# Altium footprint library PCB Library.PcbLib: 41 footprints (part 3 of 3)
Each footprint in its own frame and in the unit in brackets; x right, y up, seen from the top. Pads: shape width x height; smd on the part's side, far side on the other; paste and mask are expansions set on the pad; w line width, h text height; cw(c..) or ccw(c..) is an arc to the next point about the centre after c.
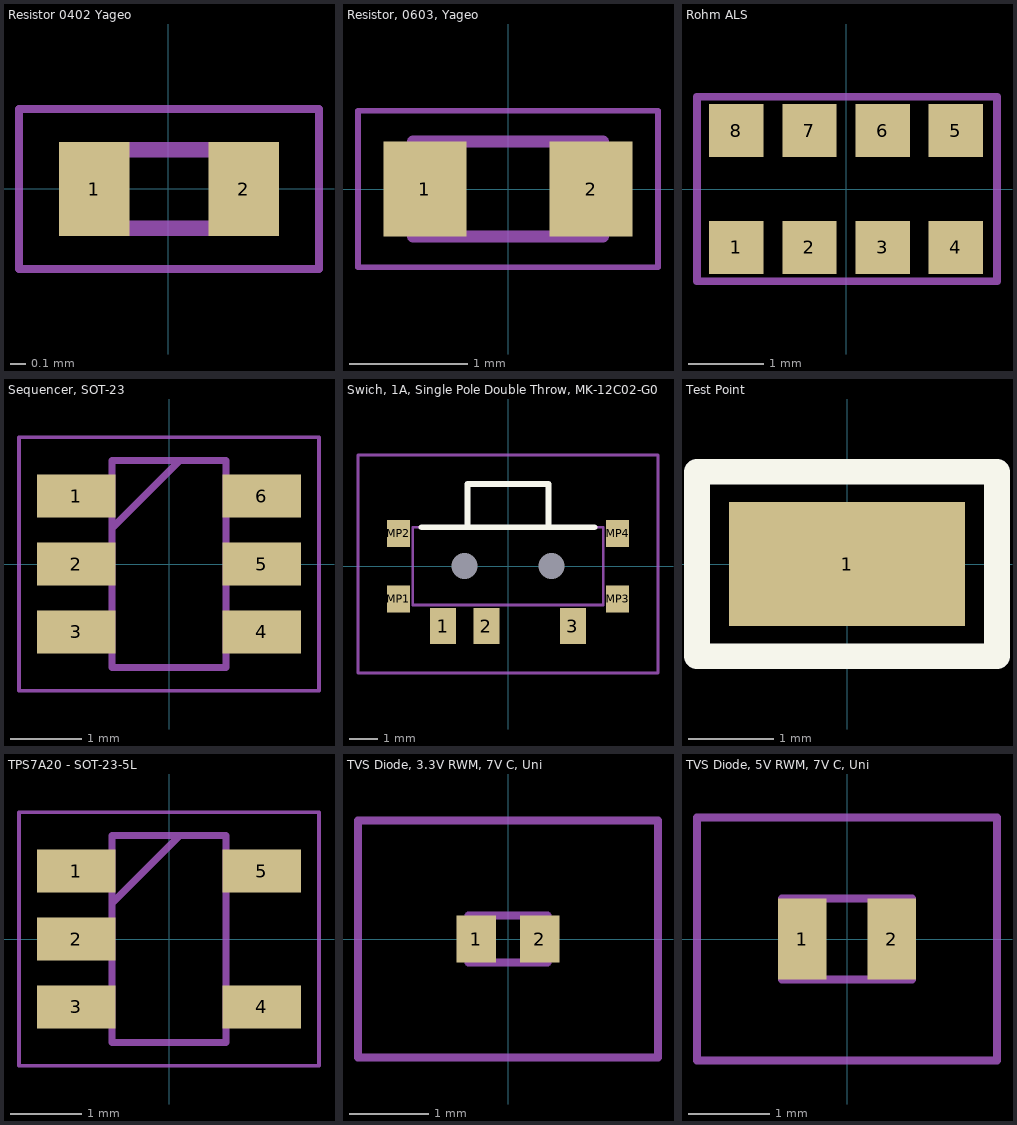
[diagram p2: the footprints below, top view; thin cyan lines are the x and y axes]

## Resistor 0402 Yageo [mm] "Chip Resistor, 2-Leads, Body 1,00x0,50mm, IPC Medium Density"
height 0.4
pads (2):
  rect 0.45x0.6 smd mask+0: 1(-0.47,-0.001) 2(0.48,-0.001)
Mechanical 13:
  lines w0.1: -0.495,-0.251 0.505,-0.251 0.505,0.249 -0.495,0.249 -0.495,-0.251
Mechanical 15:
  lines w0.05: -0.95,-0.511 0.96,-0.511 0.96,0.509 -0.95,0.509 -0.95,-0.511
3D body "Resistor 0402 Yageo.step": height 0.4, standoff 0, extent -0.517,-0.278 0.533,0.272

## Resistor, 0603, Yageo [mm]
pads (2):
  rect 0.7x0.8 smd mask+0: 1(-0.7,0) 2(0.7,0)
Mechanical 13:
  lines w0.1: -0.8,-0.4 0.8,-0.4 0.8,0.4 -0.8,0.4 -0.8,-0.4
Mechanical 15:
  lines w0.05: -1.265,-0.66 1.265,-0.66 1.265,0.66 -1.265,0.66 -1.265,-0.66
3D body "Res_Yageo_RC0603FR-073K3L_eec.STEP": height 0.25, standoff 0, extent -1.456,-0.706 1.456,0.706

## Rohm ALS [mm]
pads (8):
  rect 0.72x0.7 smd mask+0: 1(-1.455,-0.775) 2(-0.485,-0.775) 3(0.485,-0.775) 4(1.455,-0.775) 5(1.455,0.775) 6(0.485,0.775) 7(-0.485,0.775) 8(-1.455,0.775)
Mechanical 1:
  lines w0.1: -1.975,-1.225 2,-1.225 2,1.225 -1.975,1.225 -1.975,-1.225
3D body "RPR-0521RS.stp": height 1.35, standoff 0, extent -1.97,-1.18 1.97,1.18

## Sequencer, SOT-23 [mm]
pads (6):
  rect 1.1x0.6 smd mask+0: 1(-1.3,0.95) 2(-1.3,0) 3(-1.3,-0.95) 4(1.3,-0.95) 5(1.3,0) 6(1.3,0.95)
Mechanical 13:
  lines w0.1: -0.8,0.5 0.15,1.45 ; -0.8,-1.45 -0.8,1.45 0.8,1.45 0.8,-1.45 -0.8,-1.45
Mechanical 15:
  lines w0.05: -2.1,-1.775 -2.1,1.775 2.1,1.775 2.1,-1.775 -2.1,-1.775
3D body "LM3880MF-1AB_NOPB.stp": height 1.2, standoff 0, extent -1.4,-1.45 1.4,1.45

## Swich, 1A, Single Pole Double Throw, MK-12C02-G020 [mm]
pads (9):
  rect 0.9x1.25 smd mask+0: 1(-2.25,-2.075) 2(-0.75,-2.075) 3(2.25,-2.075)
  round 0 hole 0.9 unplated mask+0: MH1(-1.5,0) MH2(1.5,0)
  rect 0.8x0.93 smd mask+0: MP1(-3.8,-1.135) MP2(-3.8,1.135) MP3(3.8,-1.135) MP4(3.8,1.135)
Top Overlay:
  lines w0.2: -3,1.35 3,1.35 ; -1.4,1.35 -1.4,2.85 1.4,2.85 1.4,1.35
Mechanical 13:
  lines w0.1: -1.4,1.35 -1.4,2.85 1.4,2.85 1.4,1.35 ; -3.3,-1.35 -3.3,1.35 3.3,1.35 3.3,-1.35 -3.3,-1.35
Mechanical 15:
  lines w0.1: -5.2,-3.7 -5.2,3.85 5.2,3.85 5.2,-3.7 -5.2,-3.7
3D body "PCM12SMTR.stp": height 1.41, standoff -0.49, extent -3.85,-2.2 3.85,2.8

## Test Point [mm]
pads (1):
  rect 2.75x1.45 smd mask+0: 1(0,0)
Top Overlay:
  lines w0.3: -1.75,-1.075 1.75,-1.075 1.75,1.075 0,1.075 -1.75,1.075 -1.75,-1.075
Mechanical 15:
  region: -1.25,0.6 1.25,0.6 1.25,-0.6 -1.25,-0.6
  region: 1.31,0.6 1.309,0.624 1.274,0.659 1.225,0.659 1.19,0.624 1.19,0.6 1.19,0.575 1.225,0.541 1.274,0.541 1.309,0.575
  lines w0.051: -1.25,-0.6 1.25,-0.6 1.25,0.6 -1.25,0.6 -1.25,-0.6
3D body "Conn_Harwin_S2761-46R_eec.STEP": height 0.25, standoff 0, extent -1,-0.6 1,0.6

## TPS7A20 - SOT-23-5L [mm]
pads (5):
  rect 1.1x0.6 smd mask+0: 1(-1.3,0.95) 2(-1.3,0) 3(-1.3,-0.95) 4(1.3,-0.95) 5(1.3,0.95)
Mechanical 13:
  lines w0.1: -0.8,0.5 0.15,1.45 ; -0.8,-1.45 0.8,-1.45 0.8,1.45 -0.8,1.45 -0.8,-1.45
Mechanical 15:
  lines w0.05: -2.1,-1.775 2.1,-1.775 2.1,1.775 -2.1,1.775 -2.1,-1.775
3D body "TPS7A2018PDBVR.stp": height 1.2, standoff 0, extent -1.4,-1.45 1.4,1.45

## TVS Diode, 3.3V RWM, 7V C, Uni [mm] "STN101050BL25"
pads (2):
  rect 0.5x0.6 smd mask+0: 1(-0.4,0) 2(0.4,0)
Mechanical 13:
  lines w0.1: -0.5,-0.3 -0.5,0.3 0.5,0.3 0.5,-0.3 -0.5,-0.3
Mechanical 15:
  lines w0.1: -1.9,-1.5 -1.9,1.5 1.9,1.5 1.9,-1.5 -1.9,-1.5
3D body "SC1103C-01UTG.stp": height 0.51, standoff 0.01, extent -0.8,-0.5 0.8,0.5

## TVS Diode, 5V RWM, 7V C, Uni [mm] "DFN1610-2L"
pads (2):
  rect 0.6x1 smd mask+0: 1(-0.55,0) 2(0.55,0)
Mechanical 13:
  lines w0.1: -0.8,-0.5 0.8,-0.5 0.8,0.5 -0.8,0.5 -0.8,-0.5
Mechanical 15:
  lines w0.1: -1.85,-1.5 1.85,-1.5 1.85,1.5 -1.85,1.5 -1.85,-1.5
3D body "SC1103C-01UTG.stp": height 0.51, standoff 0.01, extent -0.8,-0.5 0.8,0.5